# EAGLE library part RFM69 (library SparkFun-RF)
Hope RF RFM69CW ISM Transceiver Module The RFM69CW radio module by HopeRF is a compact, powerful radio transceiver module for swapping data packets in the 868 MHz ISM band, using standard and enhanced FSK modulation. The radio is great for sub-compact designs; just 4mm of mounted height from using an SMD precision crystal. Datasheet <http://www.hoperf.com/upload/rf/RFM69CW-V1.1.pdf>
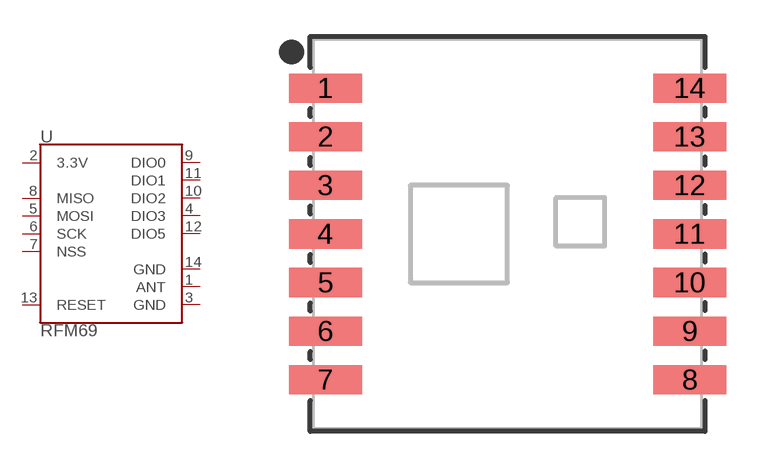
[diagram p21: symbol with the pads of RFM69CW-XXXS2; footprint RFM69CW-XXXS2]

Designator prefix U

## RFM69CW-915MHZ (PROD_ID: IC-11996; VALUE: 915MHz)  [RFM69CW-XXXS2]
1  ANT  pas
2  3.3V  pwr
3  GND  pwr
4  DIO3
5  MOSI  in
6  SCK  in
7  NSS  in
8  MISO
9  DIO0
10  DIO2
11  DIO1
12  DIO5
13  RESET  in
14  GND  pwr

## Footprint RFM69CW-XXXS2 (pad centres in mm)
Hope RF RFM69CW RF Transciever Datasheet <http://www.hoperf.com/upload/rf/RFM69CW-V1.1.pdf>
smd 3 x 1.2: 1 -7.5,6; 2 -7.5,4; 3 -7.5,2; 4 -7.5,0; 5 -7.5,-2; 6 -7.5,-4; 7 -7.5,-6; 8 7.5,-6; 9 7.5,-4; 10 7.5,-2; 11 7.5,0; 12 7.5,2; 13 7.5,4; 14 7.5,6